# Altium integrated library Connectors.IntLib: 65 symbols
Pins are listed as number, name and electrical type; pins without a type are passive.

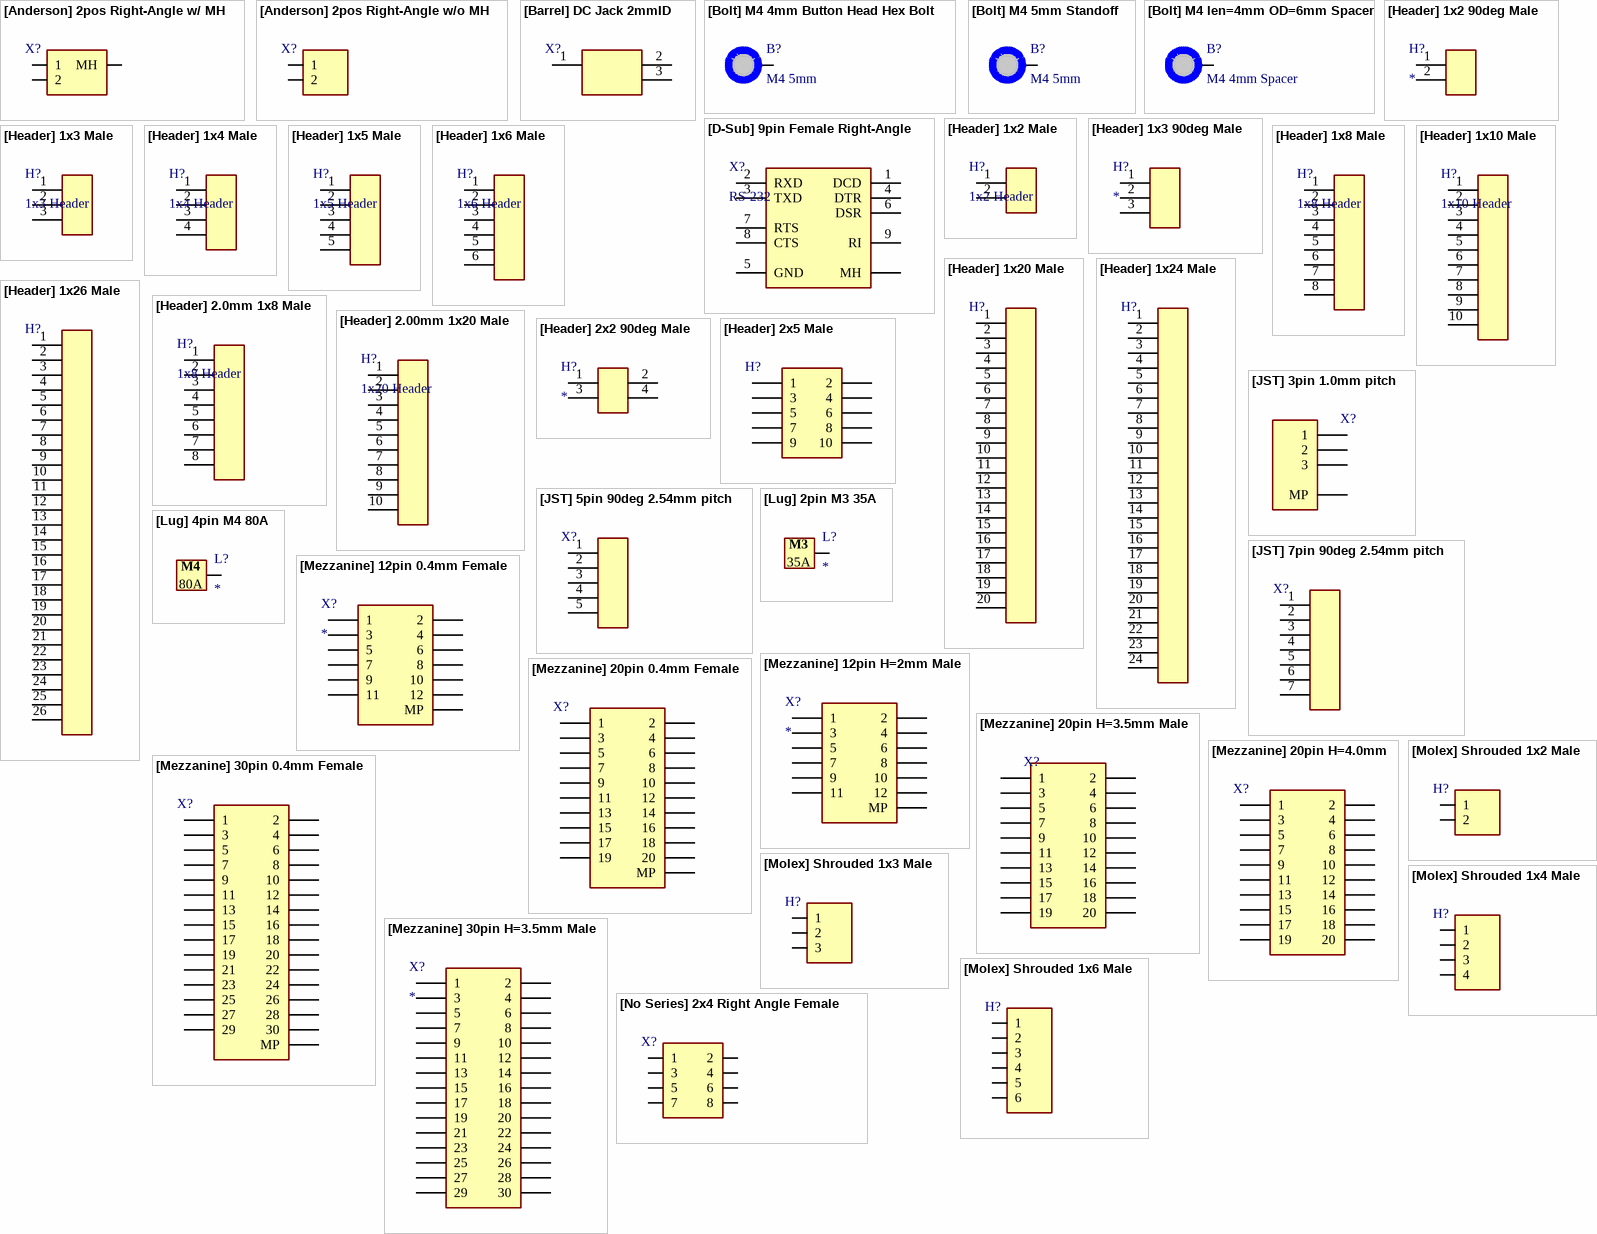
[diagram p0: symbols [Anderson] 2pos Right-Angle w/ MH to [No Series] 2x4 Right Angle Female]

## [Anderson] 2pos Right-Angle w/ MH
designator X?, comment Anderson 2pos Right-Angle  (value not drawn)
footprint [Anderson] 2pos Right-Angle w/ MH 1327G17
pins: 1, 2, MH (power)

## [Anderson] 2pos Right-Angle w/o MH
designator X?, comment Anderson 2pos Right-Angle  (value not drawn)
footprint [Anderson] 2pos Right-Angle w/o MH 1327G17
pins: 1, 2

## [Barrel] DC Jack 2mmID
designator X?  (value not drawn)
PJ-102A; Supplier 1: DigiKey; Supplier Part Number 1: CP-102A-ND
footprint [Barrel] DC Jack
pins: 1 Pin, 2 Barrel, 3 Barrel

## [Bolt] M4 4mm Button Head Hex Bolt
designator B?, comment M4 5mm
Supplier 1: DigiKey; Supplier Part Number 1: 732-12900-ND; ComponentLink1Description: McMaster Link; ComponentLink1URL: https://www.mcmaster.com/92095A476/
footprint [Bolt] M4 4mm Button Head Hex Bolt
pins: 1 (power)

## [Bolt] M4 5mm Standoff
designator B?, comment M4 5mm
971050474; Supplier 1: DigiKey; Supplier Part Number 1: 732-12900-ND
footprint [Bolt] M4 5mm Standoff (971050474)
pins: 1 (power)

## [Bolt] M4 len=4mm OD=6mm Spacer
designator B?, comment M4 4mm Spacer
ID: 4mm / OD: 6mm; ComponentLink1Description: McMaster Supplier; ComponentLink1URL: https://www.mcmaster.com/94669A006/
footprint [Bolt] M4 len=4mm OD=6mm Spacer
pins: 1 (power)

## [D-Sub] 9pin Female Right-Angle
designator X?, comment RS-232
LD09S33E4GV00LF; Supplier 1: DigiKey; Supplier Part Number 1: 609-5192-ND
footprint [D-Sub] 9pin Female Right-Angle (LD09S33E4GV00LF)
pins: 1 DCD, 2 RXD, 3 TXD, 4 DTR, 5 GND, 6 DSR, 7 RTS, 8 CTS, 9 RI, MH

## [Header] 1x2 90deg Male
designator H?
2.54mm pitch
footprint [Header] 1x2 90deg Male - duplicate
pins: 1, 2

## [Header] 1x2 Male
designator H?, comment 1x2 Header
2.54mm pitch
footprint [Header] 1x2 Male
pins: 1, 2

## [Header] 1x3 90deg Male
designator H?
2.54mm pitch
footprint [Header] 1x3 90deg Male
pins: 1, 2, 3

## [Header] 1x3 Male
designator H?, comment 1x3 Header
2.54mm pitch
footprint [Header] 1x3 Male
pins: 1, 2, 3

## [Header] 1x4 Male
designator H?, comment 1x4 Header
2.54mm pitch
footprint [Header] 1x4 Male (2.54mm pitch)
pins: 1, 2, 3, 4

## [Header] 1x5 Male
designator H?, comment 1x5 Header
2.54mm pitch
footprint [Header] 1x5 Male
pins: 1, 2, 3, 4, 5

## [Header] 1x6 Male
designator H?, comment 1x6 Header
2.54mm pitch
footprint [Header] 1x6 Male
pins: 1, 2, 3, 4, 5, 6

## [Header] 1x8 Male
designator H?, comment 1x8 Header
2.54mm pitch
footprint [Header] 1x8 Male
pins: 1, 2, 3, 4, 5, 6, 7, 8

## [Header] 1x10 Male
designator H?, comment 1x10 Header
2.54mm pitch
footprint [Header] 1x10 Male
pins: 1, 2, 3, 4, 5, 6, 7, 8, 9, 10

## [Header] 1x20 Male
designator H?, comment 1x20 Header  (value not drawn)
2.54mm pitch
footprint [Header] 1x20 Male
pins: 1, 2, 3, 4, 5, 6, 7, 8, 9, 10, 11 1, 12 2, 13 3, 14 4, 15 5, 16 6, 17 7, 18 8, 19 9, 20 10

## [Header] 1x24 Male
designator H?, comment 1x24 Header  (value not drawn)
2.54mm pitch
footprint [Header] 1x24 Male
pins: 1, 2, 3, 4, 5, 6, 7, 8, 9, 10, 11, 12, 13, 14, 15, 16, 17, 18, 19, 20, 21, 22, 23, 24

## [Header] 1x26 Male
designator H?, comment 1x26 Header  (value not drawn)
2.54mm pitch
footprint [Header] 1x26 Male
pins: 1, 2, 3, 4, 5, 6, 7, 8, 9, 10, 11, 12, 13, 14, 15, 16, 17, 18, 19, 20, 21, 22, 23, 24, 25, 26

## [Header] 2.0mm 1x8 Male
designator H?, comment 1x8 Header
2.0mm pitch; Supplier 1: DigiKey; Supplier Part Number 1: 35-NRPN081PAEN-RC-ND
footprint [Header] 2.00mm 1x8 Male
pins: 1, 2, 3, 4, 5, 6, 7, 8

## [Header] 2.00mm 1x20 Male
designator H?, comment 1x20 Header
2.00mm pitch; Supplier 1: DigiKey; Supplier Part Number 1: 2057-2RS1-20-G-ND
footprint [Header] 1x10 Male
pins: 1, 2, 3, 4, 5, 6, 7, 8, 9, 10

## [Header] 2x2 90deg Male
designator H?
PH2RA-04-UA; Supplier 1: DigiKey; Supplier Part Number 1: 2057-PH2RA-04-UA-ND
footprint [Header] 2x2 90deg Male (PH2RA-04-UA)
pins: 1, 2, 3, 4

## [Header] 2x5 Male
designator H?, comment 2x5 Header  (value not drawn)
2.54mm pitch
footprint [Header] 2x5 Male
pins: 1, 2, 3, 4, 5, 6, 7, 8, 9, 10

## [JST] 3pin 1.0mm pitch
designator X?  (value not drawn)
Debug connector recommended for RP2350-series SW pins.; Supplier 1: DigiKey; Supplier Part Number 1: 455-SM03B-SRSS-TBCT-ND
footprint [JST] 3pin 1.0mm pitch (Debug connector recommended for RP2350-series SW pins.)
pins: 1, 2, 3, MP

## [JST] 5pin 90deg 2.54mm pitch
designator X?  (value not drawn)
footprint [JST] 5pin 90deg 2.54mm pitch
pins: 1, 2, 3, 4, 5

## [JST] 7pin 90deg 2.54mm pitch
designator X?  (value not drawn)
footprint [JST] 7pin 90deg 2.54mm pitch
pins: 1, 2, 3, 4, 5, 6, 7

## [Lug] 2pin M3 35A
designator L?
AMT0230003TH0000G; Supplier 1: DigiKey; Supplier Part Number 1: 1818-AMT0230003TH0000G-ND
footprint [Lug] 2pin M3 35A (AMT0230003TH0000G)
pins: 1 4 (power)
text: M3; 35A

## [Lug] 4pin M4 80A
designator L?
AMT0440005TH0000G; Supplier 1: DigiKey; Supplier Part Number 1: 1818-AMT0440005TH0000G-ND
footprint [Lug] 4pin M4 80A (AMT0440005TH0000G)
pins: 1 4 (power)
text: M4; 80A

## [Mezzanine] 12pin 0.4mm Female
designator X?
DF40C-12DP-0.4V(51); System: Connector; Supplier 1: DigiKey; Supplier Part Number 1: 26-DF40C-12DP-0.4V(51)CT-ND
footprint [Mezzanine] 12pin 0.4mm Female
pins: 1, 2, 3, 4, 5, 6, 7, 8, 9, 10, 11, 12, MP

## [Mezzanine] 12pin H=2mm Male
designator X?
DF40B(2.0)-12DS-0.4V(51); System: Connector; Supplier 1: DigiKey; Supplier Part Number 1: 26-DF40B(2.0)-12DS-0.4V(51)CT-ND
footprint [Mezzanine] 12pin H=2mm Male
pins: 1, 2, 3, 4, 5, 6, 7, 8, 9, 10, 11, 12, MP

## [Mezzanine] 20pin 0.4mm Female
designator X?  (value not drawn)
DF40C-20DP-0.4V(51); System: Connector; Supplier 1: DigiKey; Supplier Part Number 1: H11618CT-ND
footprint [Mezzanine] 20pin 0.4mm Female (DF40C-20DP-0.4V(51))
pins: 1, 2, 3, 4, 5, 6, 7, 8, 9, 10, 11, 12, 13, 14, 15, 16, 17, 18, 19, 20, MP

## [Mezzanine] 20pin H=3.5mm Male
designator X?  (value not drawn)
DF40HC(3.5)-20DS-0.4V(51); System: Connector; Supplier 1: DigiKey; Supplier Part Number 1: 26-DF40HC(3.5)-20DS-0.4V(51)CT-ND
footprint [Mezzanine] 20pin H=3.5mm Male
pins: 1, 2, 3, 4, 5, 6, 7, 8, 9, 10, 11, 12, 13, 14, 15, 16, 17, 18, 19, 20

## [Mezzanine] 20pin H=4.0mm
designator X?  (value not drawn)
DF40TC(4.0)-20DS-0.4V(58); System: Connector; Supplier 1: DigiKey; Supplier Part Number 1: 26-DF40TC(4.0)-20DS-0.4V(58)CT-ND
footprint [Mezzanine] 20pin H=4.0mm Male (DF40TC(4.0)-20DS-0.4V(58))
pins: 1, 2, 3, 4, 5, 6, 7, 8, 9, 10, 11, 12, 13, 14, 15, 16, 17, 18, 19, 20

## [Mezzanine] 30pin 0.4mm Female
designator X?  (value not drawn)
DF40C-30DP-0.4V(51); System: Connector; Supplier 1: DigiKey; Supplier Part Number 1: H11622CT-ND
footprint [Mezzanine] 30pin 0.4mm Female
pins: 1, 2, 3, 4, 5, 6, 7, 8, 9, 10, 11, 12, 13, 14, 15, 16, 17, 18, 19, 20, 21, 22, 23, 24, 25, 26, 27, 28, 29, 30, MP

## [Mezzanine] 30pin H=3.5mm Male
designator X?
DF40HC(3.5)-30DS-0.4V(51); System: Connector; Supplier 1: DigiKey; Supplier Part Number 1: H11775CT-ND
footprint [Mezzanine] 30pin H=3.5mm Male (DF40C-30DP-0.4V(51))
pins: 1, 2, 3, 4, 5, 6, 7, 8, 9, 10, 11, 12, 13, 14, 15, 16, 17, 18, 19, 20, 21, 22, 23, 24, 25, 26, 27, 28, 29, 30

## [Molex] Shrouded 1x2 Male
designator H?, comment 1x2 Male  (value not drawn)
0705430036 / Mates with 0050579402; Supplier 1: DigiKey; Supplier Part Number 1: WM4824-ND
footprint [Molex] Shrouded 1x2 Male
pins: 1, 2

## [Molex] Shrouded 1x3 Male
designator H?, comment 1x3 Male  (value not drawn)
070543-0037 / Mates with 005057-9403; Supplier 1: DigiKey; Supplier Part Number 1: WM4825-ND
footprint [Molex] Shrouded 1x3 Male (070543-0037 / Mates with 005057-9403)
pins: 1, 2, 3

## [Molex] Shrouded 1x4 Male
designator H?, comment 1x4 Male  (value not drawn)
70543-0003 / Mates with 005057-9404; Supplier 1: Avnet; Supplier Part Number 1: 0705430003
footprint [Molex] Shrouded 1x4 Male (70543-0003 / Mates with 0050579404)
pins: 1, 2, 3, 4

## [Molex] Shrouded 1x6 Male
designator H?  (value not drawn)
0705430005 / Mates with 0050579406; Supplier 1: DigiKey; Supplier 2: DigiKey; Supplier Part Number 1: WM4804-ND; Supplier Part Number 2: WM2904-ND
footprint [Molex] Shrouded 1x6 Male
pins: 1, 2, 3, 4, 5, 6

## [No Series] 2x4 Right Angle Female
designator X?  (value not drawn)
280389-2
footprint [No Series] 2x4 Right Angle Female (280389-2)
pins: 1, 2, 3, 4, 5, 6, 7, 8

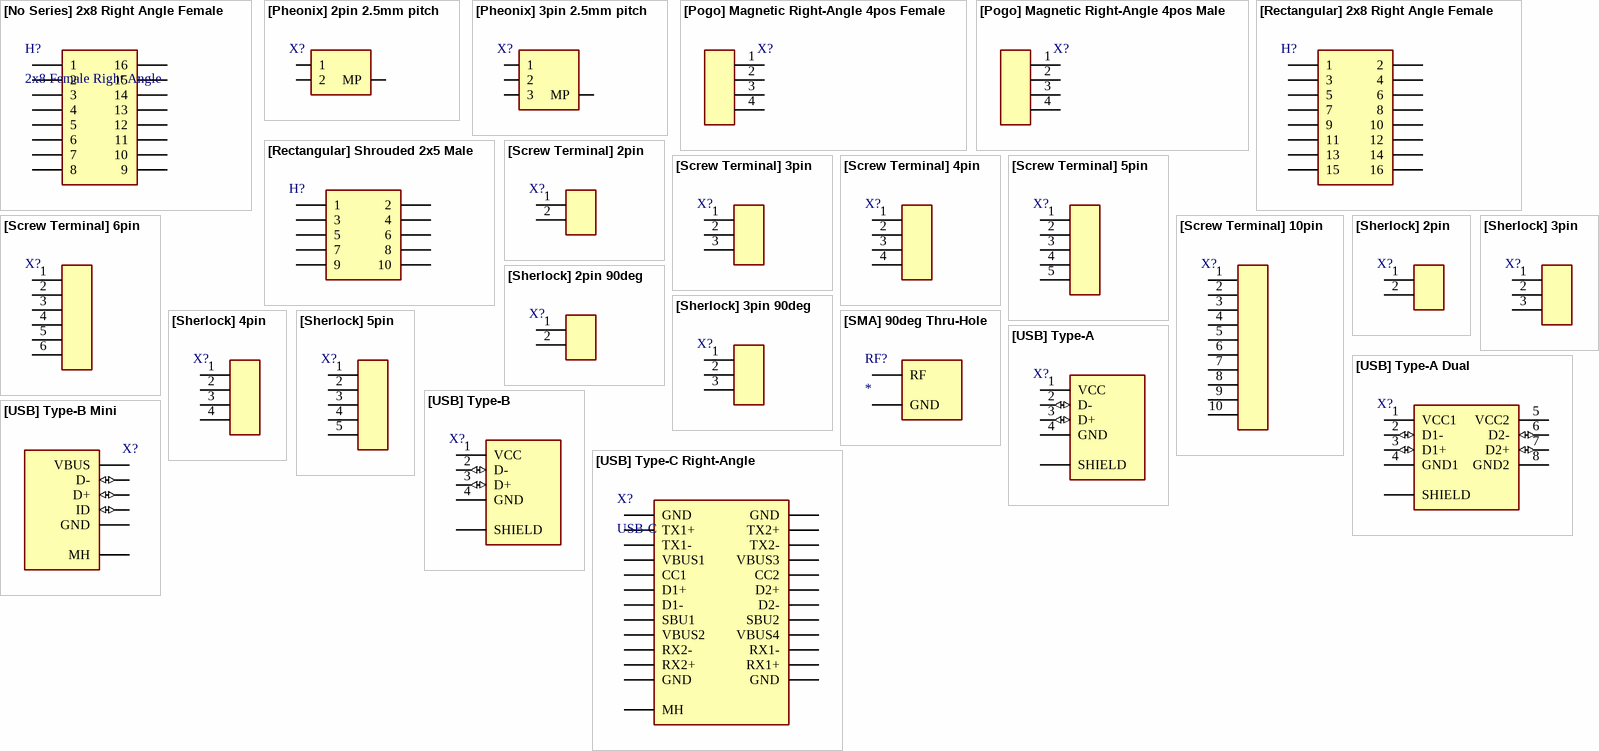
[diagram p1: symbols [No Series] 2x8 Right Angle Female to [USB] Type-C Right-Angle]

## [No Series] 2x8 Right Angle Female
designator H?, comment 2x8 Female Right Angle
90152-2116; Supplier 1: Newark; Supplier Part Number 1: 94M3112
footprint [No Series] 2x8 Female Right Angle (90152-2116)
pins: 1, 2, 3, 4, 5, 6, 7, 8, 9, 10, 11, 12, 13, 14, 15, 16

## [Pheonix] 2pin 2.5mm pitch
designator X?  (value not drawn)
1778764; Supplier 1: DigiKey; Supplier Part Number 1: 277-2315-1-ND
footprint [Pheonix] 2pin 2.5mm pitch (1778764)
pins: 1, 2, MP

## [Pheonix] 3pin 2.5mm pitch
designator X?  (value not drawn)
1778777; Supplier 1: DigiKey; Supplier Part Number 1: 277-2316-1-ND
footprint [Pheonix] 3pin 2.5mm pitch (1778777)
pins: 1, 2, 3, MP

## [Pogo] Magnetic Right-Angle 4pos Female
designator X?  (value not drawn)
5358; Supplier 1: DigiKey; Supplier Part Number 1: 1528-5358-ND
footprint [Pogo] Magnetic Right-Angle 4pos Female (5358)
pins: 1, 2, 3, 4

## [Pogo] Magnetic Right-Angle 4pos Male
designator X?  (value not drawn)
5358; Supplier 1: DigiKey; Supplier Part Number 1: 1528-5358-ND
footprint [Pogo] Magnetic Right-Angle 4pos Male (5358)
pins: 1, 2, 3, 4

## [Rectangular] 2x8 Right Angle Female
designator H?, comment 2x8 Shrouded  (value not drawn)
302-S161; Supplier 1: DigiKey; Supplier Part Number 1: ED10523-ND
footprint [Rectangular] Shrouded 2x8 Male
pins: 1, 2, 3, 4, 5, 6, 7, 8, 9, 10, 11, 12, 13, 14, 15, 16

## [Rectangular] Shrouded 2x5 Male
designator H?, comment 2x5 Shrouded  (value not drawn)
BHR-10-VUA; Supplier 1: DigiKey; Supplier Part Number 1: 2057-BHR-10-VUA-ND
footprint [Rectangular] Shrouded 2x5 Male
pins: 1, 2, 3, 4, 5, 6, 7, 8, 9, 10

## [Screw Terminal] 2pin
designator X?, comment 2pin Screw Terminal  (value not drawn)
TB002-500-02BE; Supplier 1: DigiKey; Supplier Part Number 1: 102-6145-ND
footprint [Screw Terminal] 2pin 5mm
pins: 1 (power), 2 (power)

## [Screw Terminal] 3pin
designator X?, comment 3pin Screw Terminal  (value not drawn)
TB003-500-P03BE; Supplier 1: DigiKey; Supplier Part Number 1: 102-6162-ND
footprint [Screw Terminal] 3pin 5mm
pins: 1 (power), 2 (power), 3 (power)

## [Screw Terminal] 4pin
designator X?, comment 4pin Screw Terminal  (value not drawn)
TB002-500-04BE; Supplier 1: DigiKey; Supplier Part Number 1: 102-6147-ND
footprint [Screw Terminal] 4pin 5mm
pins: 1 (power), 2 (power), 3 (power), 4 (power)

## [Screw Terminal] 5pin
designator X?, comment 5pin Screw Terminal  (value not drawn)
TB002-500-05BE; Supplier 1: DigiKey; Supplier Part Number 1: 102-6148-ND
footprint [Screw Terminal] 5pin 5mm
pins: 1 (power), 2 (power), 3 (power), 4 (power), 5 (power)

## [Screw Terminal] 6pin
designator X?, comment 6pin Screw Terminal  (value not drawn)
TB002-500-06BE; Supplier 1: DigiKey; Supplier Part Number 1: 102-6149-ND
footprint [Screw Terminal] 6pin 5mm
pins: 1 (power), 2 (power), 3 (power), 4 (power), 5 (power), 6 (power)

## [Screw Terminal] 10pin
designator X?, comment 10pin Screw Terminal  (value not drawn)
TB002-500-10BE; Supplier 1: DigiKey; Supplier Part Number 1: 102-6152-ND
footprint [Screw Terminal] 10pin 5mm
pins: 1 (power), 2 (power), 3 (power), 4 (power), 5 (power), 6 (power), 7 (power), 8 (power), 9 (power), 10 (power)

## [Sherlock] 2pin
designator X?  (value not drawn)
0353620250; Supplier 1: DigiKey; Supplier Part Number 1: WM18920-ND
footprint [Sherlock] 2pin
pins: 1, 2

## [Sherlock] 2pin 90deg
designator X?  (value not drawn)
0353630260; Supplier 1: DigiKey; Supplier Part Number 1: WM18931-ND
footprint [Sherlock] 2pin 90deg (0353630260)
pins: 1, 2

## [Sherlock] 3pin
designator X?  (value not drawn)
0353620350; Supplier 1: DigiKey; Supplier Part Number 1: WM18921-ND
footprint [Sherlock] 3pin
pins: 1, 2, 3

## [Sherlock] 3pin 90deg
designator X?  (value not drawn)
0353630360; Supplier 1: DigiKey; Supplier Part Number 1: WM18932-ND
footprint [Sherlock] 3pin 90deg (0353630360)
pins: 1, 2, 3

## [Sherlock] 4pin
designator X?  (value not drawn)
0353620450; Supplier 1: DigiKey; Supplier Part Number 1: WM18922-ND
footprint [Sherlock] 4pin (0353620450)
pins: 1, 2, 3, 4

## [Sherlock] 5pin
designator X?  (value not drawn)
0353620550; Supplier 1: DigiKey; Supplier Part Number 1: WM18923-ND
footprint [Sherlock] 5pin (0353620550)
pins: 1, 2, 3, 4, 5

## [SMA] 90deg Thru-Hole
designator RF?
RFPC-SMA27-F; Supplier 1: DigiKey; Supplier Part Number 1: 2073-RFPC-SMA27-F-ND
footprint [SMA] 90deg Thru-Hole (RFPC-SMA27-F)
pins: 1 RF, 2 GND (power)

## [USB] Type-A
designator X?, comment USB-A  (value not drawn)
KUSBEX-ASFS1N-B; Supplier 1: DigiKey; Supplier Part Number 1: 2092-KUSBEX-ASFS1N-B-ND
footprint [USB] Type-A
pins: 1 VCC (power), 2 D- (io), 3 D+ (io), 4 GND (power), MH SHIELD

## [USB] Type-A Dual
designator X?, comment USB-A  (value not drawn)
61400826021; Supplier 1: DigiKey; Supplier Part Number 1: 2092-KUSBX-AS2N-B-ND
footprint [USB] Type-A Dual (61400826021)
pins: 1 VCC1 (power), 2 D1- (io), 3 D1+ (io), 4 GND1 (power), 5 VCC2 (power), 6 D2- (io), 7 D2+ (io), 8 GND2 (power), MH SHIELD

## [USB] Type-B
designator X?, comment USB-B  (value not drawn)
USB-B-S-F-B-TH; Supplier 1: DigiKey; Supplier Part Number 1: SAM10867-ND
footprint [USB] Type-B (USB-B-S-F-B-TH)
pins: 1 VCC (power), 2 D- (io), 3 D+ (io), 4 GND (power), MH SHIELD

## [USB] Type-B Mini
designator X?  (value not drawn)
MUSB-05-S-B-SM-A-K-TR; Supplier 1: DigiKey; Supplier Part Number 1: SAM14226CT-ND
footprint [USB] Type-B Mini (MUSB-05-S-B-SM-A-K-TR)
pins: 1 VBUS (power), 2 D- (io), 3 D+ (io), 4 ID (io), 5 GND (power), MH (power)

## [USB] Type-C Right-Angle
designator X?, comment USB-C
Supplier 1: DigiKey; Supplier Part Number 1: 670-3104-1-ND
footprint [USB] USB-C Right-Angle
pins: A1 GND, A2 TX1+, A3 TX1-, A4 VBUS1, A5 CC1, A6 D1+, A7 D1-, A8 SBU1, A9 VBUS2, A10 RX2-, A11 RX2+, A12 GND, B1 GND, B2 TX2+, B3 TX2-, B4 VBUS3, B5 CC2, B6 D2+, B7 D2-, B8 SBU2, B9 VBUS4, B10 RX1-, B11 RX1+, B12 GND, MH